# Altium schematic symbol library Molex_Minifit_Hdr_2X2.SchLib: 1 symbol
Pins are listed as number, name and electrical type; pins without a type are passive.

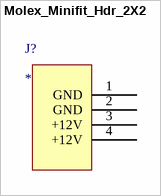
[diagram p0: symbol Molex_Minifit_Hdr_2X2]

## Molex_Minifit_Hdr_2X2
designator J?
pins: 1 GND (power), 2 GND (power), 3 +12V (power), 4 +12V (power)